# EAGLE library part HDR-1X9 (library con-hdrs40)
HEADER CONNECTOR
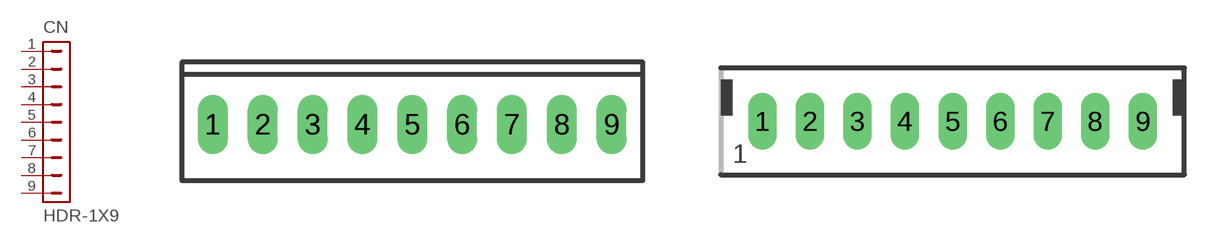
[diagram p3: symbol with the pads of MTA-100-9V; footprints MTA-100-9V, MTE-100-9V]

Designator prefix CN

## HDR-1X9-MTA-100  [MTA-100-9V]
1  1  pas
2  2  pas
3  3  pas
4  4  pas
5  5  pas
6  6  pas
7  7  pas
8  8  pas
9  9  pas

## HDR-1X9-MTE-100  [MTE-100-9V]
Pads as for MTA-100-9V

## HDR-1X9-MTE-100-L  [MTE-100-9VL]
Pads as for MTA-100-9V

## HDR-1X9-SIP-100  [SIP-100-9V]
Pads as for MTA-100-9V

## HDR-1X9-15-91-?  [15-91-09]
Pads as for MTA-100-9V

## HDR-1X9-70543-?  [70543-09]
Pads as for MTA-100-9V

## HDR-1X9-70553-?  [70553-09]
Pads as for MTA-100-9V

## Footprint MTA-100-9V (pad centres in mm)
AMP MTA Vertical .100" 9 pin
drill 1.016 long: 1 -10.16,0; 2 -7.62,0; 3 -5.08,0; 4 -2.54,0; 5 0,0; 6 2.54,0; 7 5.08,0; 8 7.62,0; 9 10.16,0

## Footprint MTE-100-9V (pad centres in mm)
AMP MTE Vertical .100" 9 pin
drill 1.016 long: 1 -10.16,0; 2 -7.62,0; 3 -5.08,0; 4 -2.54,0; 5 0,0; 6 2.54,0; 7 5.08,0; 8 7.62,0; 9 10.16,0

## Footprint MTE-100-9VL (pad centres in mm)
AMP MTE Vertical .100" 9 pin w/latch
drill 1.016 long: 1 -10.16,0; 2 -7.62,0; 3 -5.08,0; 4 -2.54,0; 5 0,0; 6 2.54,0; 7 5.08,0; 8 7.62,0; 9 10.16,0

## Footprint SIP-100-9V (pad centres in mm)
SIP Header Vertical 100" 9 pin
drill 1.016 long: 1 -10.16,0; 2 -7.62,0; 3 -5.08,0; 4 -2.54,0; 5 0,0; 6 2.54,0; 7 5.08,0; 8 7.62,0; 9 10.16,0

## Footprint 15-91-09 (pad centres in mm)
Molex C-Grid SL Connector right angle SMD, 9 pin
smd 1.651 x 5.334: 1 -10.16,-10.795; 2 -7.62,-10.795; 3 -5.08,-10.795; 4 -2.54,-10.795; 5 0,-10.795; 6 2.54,-10.795; 7 5.08,-10.795; 8 7.62,-10.795; 9 10.16,-10.795
hole 3.404 at -11.557,0.838
hole 3.404 at 11.557,0.838

## Footprint 70543-09 (pad centres in mm)
Molex C-Grid SL Connector vertical, 9 pin
drill 1.016 long: 1 -10.16,0; 2 -7.62,0; 3 -5.08,0; 4 -2.54,0; 5 0,0; 6 2.54,0; 7 5.08,0; 8 7.62,0; 9 10.16,0

## Footprint 70553-09 (pad centres in mm)
Molex C-Grid SL Connector right angle, 9 pin
drill 1.092 long: 1 -10.16,-7.62; 2 -7.62,-7.62; 3 -5.08,-7.62; 4 -2.54,-7.62; 5 0,-7.62; 6 2.54,-7.62; 7 5.08,-7.62; 8 7.62,-7.62; 9 10.16,-7.62